# Altium integrated library DC_Power_Jack_rev15b.intlib: 16 symbols
Pins are listed as number, name and electrical type; pins without a type are passive.

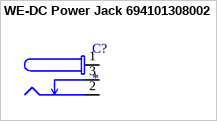
[diagram p0: symbol WE-DC Power Jack 694101308002]

## WE-DC Power Jack 694101308002
designator C?
WR-DC_DC Power Jack_Right Angled_THT; Manufacturer: W¨¹rth Elektronik eiSos GmbH; partNo: 694101308002; ComponentLink1 Description: Manufacturer; ComponentLink2 Description: Datasheet; NoPins: 3; ComponentLink1URL: http://www.we-online.de; ComponentLink2URL: http://katalog.we-online.de/em/datasheet/694101308002.pdf; Created by: Karrer Zheng; Created Date: 10/17/2014
footprint 694101308002
pins: 1 (power), 2 (power), 3 (power)


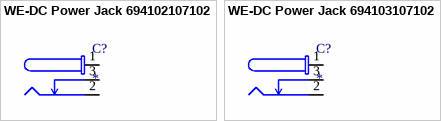
[diagram p1: symbols WE-DC Power Jack 694102107102 to WE-DC Power Jack 694103107102]

## WE-DC Power Jack 694102107102
designator C?
WR-DC_DC Power Jack_Right Angled_SMT; Manufacturer: Würth Elektronik eiSos GmbH; partNo: 694102107102; ComponentLink1 Description: Manufacturer; ComponentLink2 Description: Datasheet; NoPins: 4; ComponentLink1URL: http://www.we-online.de; ComponentLink2URL: http://katalog.we-online.de/em/datasheet/6941xx107102.pdf; Created by: Karrer Zheng; Created Date: 10/17/2014
footprint 694102107102
pins: 1 (power), 2 (power), 3 (power)

## WE-DC Power Jack 694103107102
designator C?
WR-DC_DC Power Jack_Right Angled_SMT; Manufacturer: Würth Elektronik eiSos GmbH; partNo: 694103107102; ComponentLink1 Description: Manufacturer; ComponentLink2 Description: Datasheet; NoPins: 4; ComponentLink1URL: http://www.we-online.de; ComponentLink2URL: http://katalog.we-online.de/em/datasheet/6941xx107102.pdf; Created by: Karrer Zheng; Created Date: 10/17/2014
footprint 694103107102
pins: 1 (power), 2 (power), 3 (power)


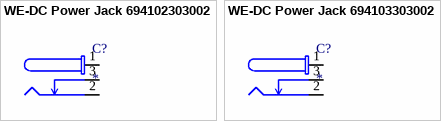
[diagram p2: symbols WE-DC Power Jack 694102303002 to WE-DC Power Jack 694103303002]

## WE-DC Power Jack 694102303002
designator C?
WR-DC_DC Power Jack_Right Angled_THT; Manufacturer: Würth Elektronik eiSos GmbH; partNo: 694102303002; ComponentLink1 Description: Manufacturer; ComponentLink2 Description: Datasheet; NoPins: 3; ComponentLink1URL: http://www.we-online.de; ComponentLink2URL: http://katalog.we-online.de/em/datasheet/6941xx303002.pdf; Created by: Karrer Zheng; Created Date: 10/17/2014
footprint 694102303002
pins: 1 (power), 2 (power), 3 (power)

## WE-DC Power Jack 694103303002
designator C?
WR-DC_DC Power Jack_Right Angled_THT; Manufacturer: Würth Elektronik eiSos GmbH; partNo: 694103303002; ComponentLink1 Description: Manufacturer; ComponentLink2 Description: Datasheet; NoPins: 3; ComponentLink1URL: http://www.we-online.de; ComponentLink2URL: http://katalog.we-online.de/em/datasheet/6941xx303002.pdf; Created by: Karrer Zheng; Created Date: 10/17/2014
footprint 694103303002
pins: 1 (power), 2 (power), 3 (power)


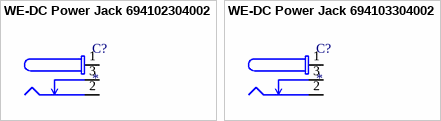
[diagram p3: symbols WE-DC Power Jack 694102304002 to WE-DC Power Jack 694103304002]

## WE-DC Power Jack 694102304002
designator C?
WR-DC_DC Power Jack_Right Angled_THT; Manufacturer: Würth Elektronik eiSos GmbH; partNo: 694102304002; ComponentLink1 Description: Manufacturer; ComponentLink2 Description: Datasheet; NoPins: 3; ComponentLink1URL: http://www.we-online.de; ComponentLink2URL: http://katalog.we-online.de/em/datasheet/6941xx304002.pdf; Created by: Karrer Zheng; Created Date: 10/17/2014
footprint 694102304002
pins: 1 (power), 2 (power), 3 (power)

## WE-DC Power Jack 694103304002
designator C?
WR-DC_DC Power Jack_Right Angled_THT; Manufacturer: Würth Elektronik eiSos GmbH; partNo: 694103304002; ComponentLink1 Description: Manufacturer; ComponentLink2 Description: Datasheet; NoPins: 3; ComponentLink1URL: http://www.we-online.de; ComponentLink2URL: http://katalog.we-online.de/em/datasheet/6941xx304002.pdf; Created by: Karrer Zheng; Created Date: 10/17/2014
footprint 694103304002
pins: 1 (power), 2 (power), 3 (power)


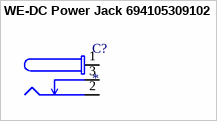
[diagram p4: symbol WE-DC Power Jack 694105309102]

## WE-DC Power Jack 694105309102
designator C?
WR-DC_DC Power Jack_Right Angled_Shielded_THT; Manufacturer: W¨¹rth Elektronik eiSos GmbH; partNo: 694105309102; ComponentLink1 Description: Manufacturer; ComponentLink2 Description: Datasheet; NoPins: 5; ComponentLink1URL: http://www.we-online.de; ComponentLink2URL: http://katalog.we-online.de/em/datasheet/694105309102.pdf; Created by: Karrer Zheng; Created Date: 10/17/2014
footprint 694105309102 (WR-DC_DC Power Jack_Right Angled_Shielded_THT Center Pin ?1.65_Plug ID ?1.75_Plug OD 4.75)
pins: 1 (power), 2 (power), 3 (power)


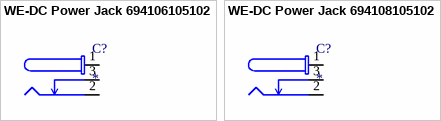
[diagram p5: symbols WE-DC Power Jack 694106105102 to WE-DC Power Jack 694108105102]

## WE-DC Power Jack 694106105102
designator C?
WR-DC_DC Power Jack_Right Angled_SMT; Manufacturer: Würth Elektronik eiSos GmbH; partNo: 694106105102; ComponentLink1 Description: Manufacturer; ComponentLink2 Description: Datasheet; NoPins: 3; ComponentLink1URL: http://www.we-online.de; ComponentLink2URL: http://katalog.we-online.de/em/datasheet/6941xx105102.pdf; Created by: Karrer Zheng; Created Date: 10/17/2014
footprint 694106105102
pins: 1 (power), 2 (power), 3 (power)

## WE-DC Power Jack 694108105102
designator C?
WR-DC_DC Power Jack_Right Angled_SMT; Manufacturer: Würth Elektronik eiSos GmbH; partNo: 694108105102; ComponentLink1 Description: Manufacturer; ComponentLink2 Description: Datasheet; NoPins: 3; ComponentLink1URL: http://www.we-online.de; ComponentLink2URL: http://katalog.we-online.de/em/datasheet/6941xx105102.pdf; Created by: Karrer Zheng; Created Date: 10/17/2014
footprint 694108105102
pins: 1 (power), 2 (power), 3 (power)


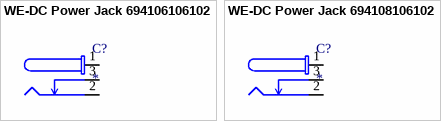
[diagram p6: symbols WE-DC Power Jack 694106106102 to WE-DC Power Jack 694108106102]

## WE-DC Power Jack 694106106102
designator C?
WR-DC_DC Power Jack_Right Angled_SMT; Manufacturer: Würth Elektronik eiSos GmbH; partNo: 694106106102; ComponentLink1 Description: Manufacturer; ComponentLink2 Description: Datasheet; NoPins: 4; ComponentLink1URL: http://www.we-online.de; ComponentLink2URL: http://katalog.we-online.de/em/datasheet/6941xx106102.pdf; Created by: Karrer Zheng; Created Date: 10/17/2014
footprint 694106106102
pins: 1 (power), 2 (power), 3 (power)

## WE-DC Power Jack 694108106102
designator C?
WR-DC_DC Power Jack_Right Angled_SMT; Manufacturer: Würth Elektronik eiSos GmbH; partNo: 694108106102; ComponentLink1 Description: Manufacturer; ComponentLink2 Description: Datasheet; NoPins: 4; ComponentLink1URL: http://www.we-online.de; ComponentLink2URL: http://katalog.we-online.de/em/datasheet/6941xx106102.pdf; Created by: Karrer Zheng; Created Date: 10/17/2014
footprint 694108106102
pins: 1 (power), 2 (power), 3 (power)


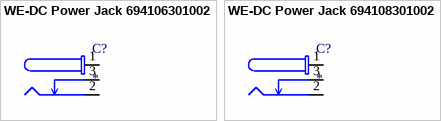
[diagram p7: symbols WE-DC Power Jack 694106301002 to WE-DC Power Jack 694108301002]

## WE-DC Power Jack 694106301002
designator C?
WR-DC_DC Power Jack_Right Angled_THT; Manufacturer: Würth Elektronik eiSos GmbH; partNo: 694106301002; ComponentLink1 Description: Manufacturer; ComponentLink2 Description: Datasheet; NoPins: 3; ComponentLink1URL: http://www.we-online.de; ComponentLink2URL: http://katalog.we-online.de/em/datasheet/6941xx301002.pdf; Created by: Karrer Zheng; Created Date: 10/17/2014
footprint 694106301002
pins: 1 (power), 2 (power), 3 (power)

## WE-DC Power Jack 694108301002
designator C?
WR-DC_DC Power Jack_Right Angled_THT; Manufacturer: Würth Elektronik eiSos GmbH; partNo: 694108301002; ComponentLink1 Description: Manufacturer; ComponentLink2 Description: Datasheet; NoPins: 3; ComponentLink1URL: http://www.we-online.de; ComponentLink2URL: http://katalog.we-online.de/em/datasheet/6941xx301002.pdf; Created by: Karrer Zheng; Created Date: 10/17/2014
footprint 694108301002
pins: 1 (power), 2 (power), 3 (power)


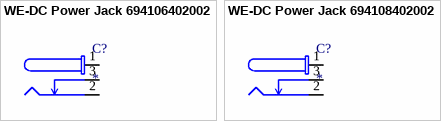
[diagram p8: symbols WE-DC Power Jack 694106402002 to WE-DC Power Jack 694108402002]

## WE-DC Power Jack 694106402002
designator C?
WR-DC_DC Power Jack_Vertical_THT; Manufacturer: Würth Elektronik eiSos GmbH; partNo: 694106402002; ComponentLink1 Description: Manufacturer; ComponentLink2 Description: Datasheet; NoPins: 3; ComponentLink1URL: http://www.we-online.de; ComponentLink2URL: http://katalog.we-online.de/em/datasheet/6941xx402002.pdf; Created by: Karrer Zheng; Created Date: 10/17/2014
footprint 694106402002
pins: 1 (power), 2 (power), 3 (power)

## WE-DC Power Jack 694108402002
designator C?
WR-DC_DC Power Jack_Vertical_THT; Manufacturer: Würth Elektronik eiSos GmbH; partNo: 694108402002; ComponentLink1 Description: Manufacturer; ComponentLink2 Description: Datasheet; NoPins: 3; ComponentLink1URL: http://www.we-online.de; ComponentLink2URL: http://katalog.we-online.de/em/datasheet/6941xx402002.pdf; Created by: Karrer Zheng; Created Date: 10/17/2014
footprint 694108402002
pins: 1 (power), 2 (power), 3 (power)